# EAGLE library part PCB (library GILBERTO)
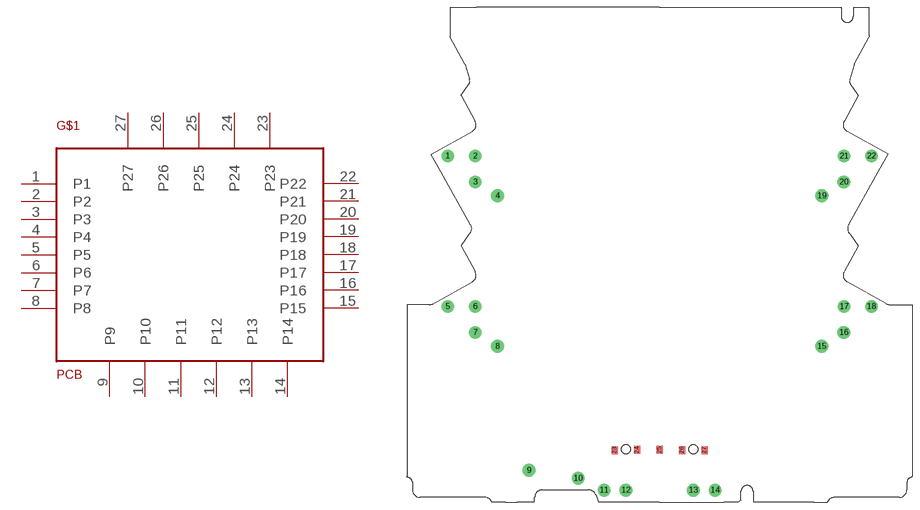
[diagram p0: symbol with the pads of PCB; footprint PCB]

Designator prefix -

## PCB  [PCB]
1  P1
2  P2
3  P3
4  P4
5  P5
6  P6
7  P7
8  P8
9  P9
10  P10
11  P11
12  P12
13  P13
14  P14
15  P15
16  P16
17  P17
18  P18
19  P19
20  P20
21  P21
22  P22
23  P23
24  P24
25  P25
26  P26
27  P27

## Footprint PCB (pad centres in mm)
drill 1.4 pad 2.54: 1 -43.967,18.542; 2 -38.481,18.517; 3 -38.456,13.335; 4 -34.036,10.566; 5 -43.942,-11.557; 6 -38.481,-11.582; 7 -38.456,-16.764; 8 -34.036,-19.533; 9 -27.711,-44.348; 10 -17.882,-45.949; 11 -12.675,-48.311; 12 -8.306,-48.311; 13 5.182,-48.311; 14 9.525,-48.311; 15 30.912,-19.533; 16 35.306,-16.764; 17 35.357,-11.582; 18 40.818,-11.557; 19 30.912,10.566; 20 35.306,13.335; 21 35.357,18.517; 22 40.818,18.542
smd 1.27 x 1.6: 23 -10.566,-40.284; 24 -6.071,-40.259; 25 -1.575,-40.259; 26 2.921,-40.284; 27 7.442,-40.284